# EAGLE library part SWITCH_SERIE (library robot_insa_V1)
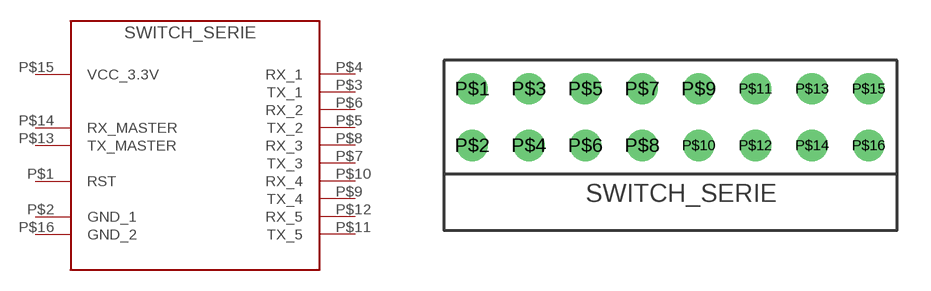
[diagram p2: symbol with the pads of SWITCH_SERIE; footprint SWITCH_SERIE]

Designator prefix -

## SWITCH_SERIE  [SWITCH_SERIE]
P$1  RST
P$2  GND_1  pwr
P$3  TX_1
P$4  RX_1
P$5  TX_2
P$6  RX_2
P$7  TX_3
P$8  RX_3
P$9  TX_4
P$10  RX_4
P$11  TX_5
P$12  RX_5
P$13  TX_MASTER
P$14  RX_MASTER
P$15  VCC_3.3V  pwr
P$16  GND_2  pwr

## Footprint SWITCH_SERIE (pad centres in mm)
drill 0.6 pad 1.4: P$1 -8.89,1.27; P$2 -8.89,-1.27; P$3 -6.35,1.27; P$4 -6.35,-1.27; P$5 -3.81,1.27; P$6 -3.81,-1.27; P$7 -1.27,1.27; P$8 -1.27,-1.27; P$9 1.27,1.27; P$10 1.27,-1.27; P$11 3.81,1.27; P$12 3.81,-1.27; P$13 6.35,1.27; P$14 6.35,-1.27; P$15 8.89,1.27; P$16 8.89,-1.27